# Altium schematic symbol library CD74HC4067M.SchLib: 1 symbol
Pins are listed as number, name and electrical type; pins without a type are passive.

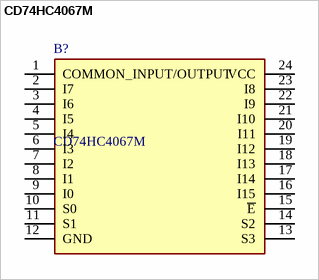
[diagram p0: symbol CD74HC4067M]

## CD74HC4067M
designator B?
High Speed CMOS 16-Ch MUX/DEMUX 24P SOIC Texas Instruments CD74HC4067M, Multiplexer/Demultiplexer Single 16:1, 3 V, 5 V, 24-Pin SOIC; Geometry.Height: 2.65mm; Mouser Part Number: 595-CD74HC4067M; Mouser Price/Stock: https://www.mouser.co.uk/ProductDetail/Texas-Instruments/CD74HC4067M?qs=DcvZ7Fltd5zoWTm6dRwGeQ%3D%3D; Manufacturer_Name: Texas Instruments; Manufacturer_Part_Number: CD74HC4067M; Datasheet Link: http://www.ti.com/lit/ds/symlink/cd74hc4067.pdf
footprint SOIC127P1030X265-24N
pins: 1 COMMON_INPUT/OUTPUT, 2 I7, 3 I6, 4 I5, 5 I4, 6 I3, 7 I2, 8 I1, 9 I0, 10 S0, 11 S1, 12 GND, 13 S3, 14 S2, 15 ~{E}, 16 I15, 17 I14, 18 I13, 19 I12, 20 I11, 21 I10, 22 I9, 23 I8, 24 VCC